# Altium schematic symbol library BLF02JD361GNED.SchLib: 1 symbol
Pins are listed as number, name and electrical type; pins without a type are passive.

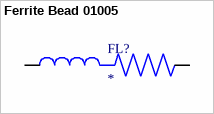
[diagram p0: symbol Ferrite Bead 01005]

## Ferrite Bead 01005
designator FL?
Ferrite Bead 01005; MP: BLF02JD361GNED; MF: Murata; Purchase-URL: https://pricing.snapeda.com/search/part/BLF02JD361GNED/?ref=eda; Package: 0402 Murata; SnapEDA_Link: https://www.snapeda.com/parts/BLF02JD361GNED/Murata/view-part/4302576/?ref=snap; Value: *; Availability: Good; Price: None; Check_prices: https://www.snapeda.com/parts/BLF02JD361GNED/Murata/view-part/4302576/?ref=eda
footprint BEADC0402X32N
pins: 1, 2